# Altium footprint library 龟仔.PcbLib: 1 footprints
Each footprint in its own frame and in the unit in brackets; x right, y up, seen from the top. Pads: shape width x height; smd on the part's side, far side on the other; paste and mask are expansions set on the pad; w line width, h text height; cw(c..) or ccw(c..) is an arc to the next point about the centre after c.
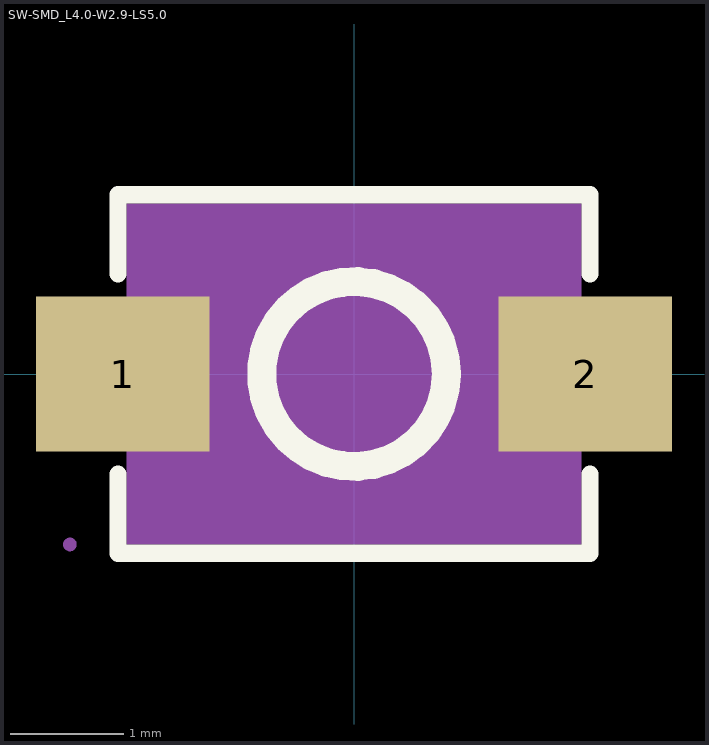
[diagram p0: the footprint, top view; thin cyan lines are the x and y axes]

## SW-SMD_L4.0-W2.9-LS5.0 [mm]
pads (2):
  rect 1.53x1.36 smd: 1(-2.035,0) 2(2.035,0)
Top Overlay:
  circle w0.254: c0,0 r0.813
  lines w0.152: -2.076,-0.883 -2.076,-1.576 2.076,-1.576 2.076,-0.883 ; -2.076,0.883 -2.076,1.576 2.076,1.576 2.076,0.883
Mechanical 4:
  region: 2,1.5 2,-1.5 -2,-1.5 -2,1.5
Mechanical 5:
  region: 2.5,0.65 2.5,-0.65 1.3,-0.65 1.3,0.65
  region: -2.5,0.65 -2.5,-0.65 -1.3,-0.65 -1.3,0.65
Mechanical 6:
  circle w0.06: c-2.5,-1.5 r0.03